# EAGLE library part MP-KSN001B (library WML-C69)
Bluetooth® SMARTモジュール「Koshian™」（コシアン）は IoT機器やウェアラブル機器の開発を目指す「メイカーズ」に対し、 ハードウェアの設計を必要とせず、容易にラピッドプロトタイピングを可能にする画期的な開発キットです。
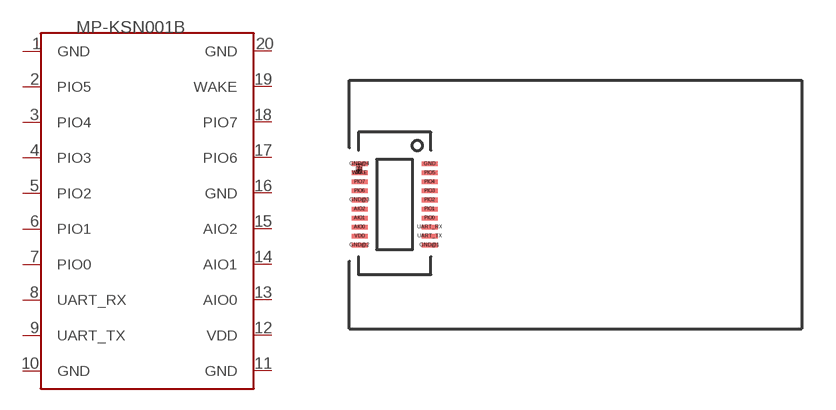
[diagram p1: symbol with the pads of WML-C69; footprint WML-C69]

Designator prefix -

## MP-KSN001B  [WML-C69]
AIO0  AIO0
AIO1  AIO1
AIO2  AIO2
GND  GND  pas
GND@1  GND  pwr
GND@2  GND  pwr
GND@3  GND  pwr
GND@4  GND  pwr
PIO0  PIO0
PIO1  PIO1
PIO2  PIO2
PIO3  PIO3
PIO4  PIO4
PIO5  PIO5
PIO6  PIO6
PIO7  PIO7
UART_RX  UART_RX
UART_TX  UART_TX
VDD  VDD  pwr
WAKE  WAKE

## Footprint WML-C69 (pad centres in mm)
Bluetooth® SMARTモジュール「Koshian™」（コシアン）は IoT機器やウェアラブル機器の開発を目指す「メイカーズ」に対し、 ハードウェアの設計を必要とせず、容易にラピッドプロトタイピングを可能にする画期的な開発キットです。
smd 0.7 x 0.2: AIO0 -1.55,-1; AIO1 -1.55,-0.6; AIO2 -1.55,-0.2; GND 1.55,1.8; GND@1 1.55,-1.8; GND@2 -1.55,-1.8; GND@3 -1.55,0.2; GND@4 -1.55,1.8; PIO0 1.55,-0.6; PIO1 1.55,-0.2; PIO2 1.55,0.2; PIO3 1.55,0.6; PIO4 1.55,1; PIO5 1.55,1.4; PIO6 -1.55,0.6; PIO7 -1.55,1; UART_RX 1.55,-1; UART_TX 1.55,-1.4; VDD -1.55,-1.4; WAKE -1.55,1.4
smd 0.152 x 0.305: P$21 -1.6,1.6; P$22 -1.5,1.6